# Altium integrated library Analog Devices Data Converters Analog-to-Digital Converters.IntLib: 2400 symbols (part 335 of 338)
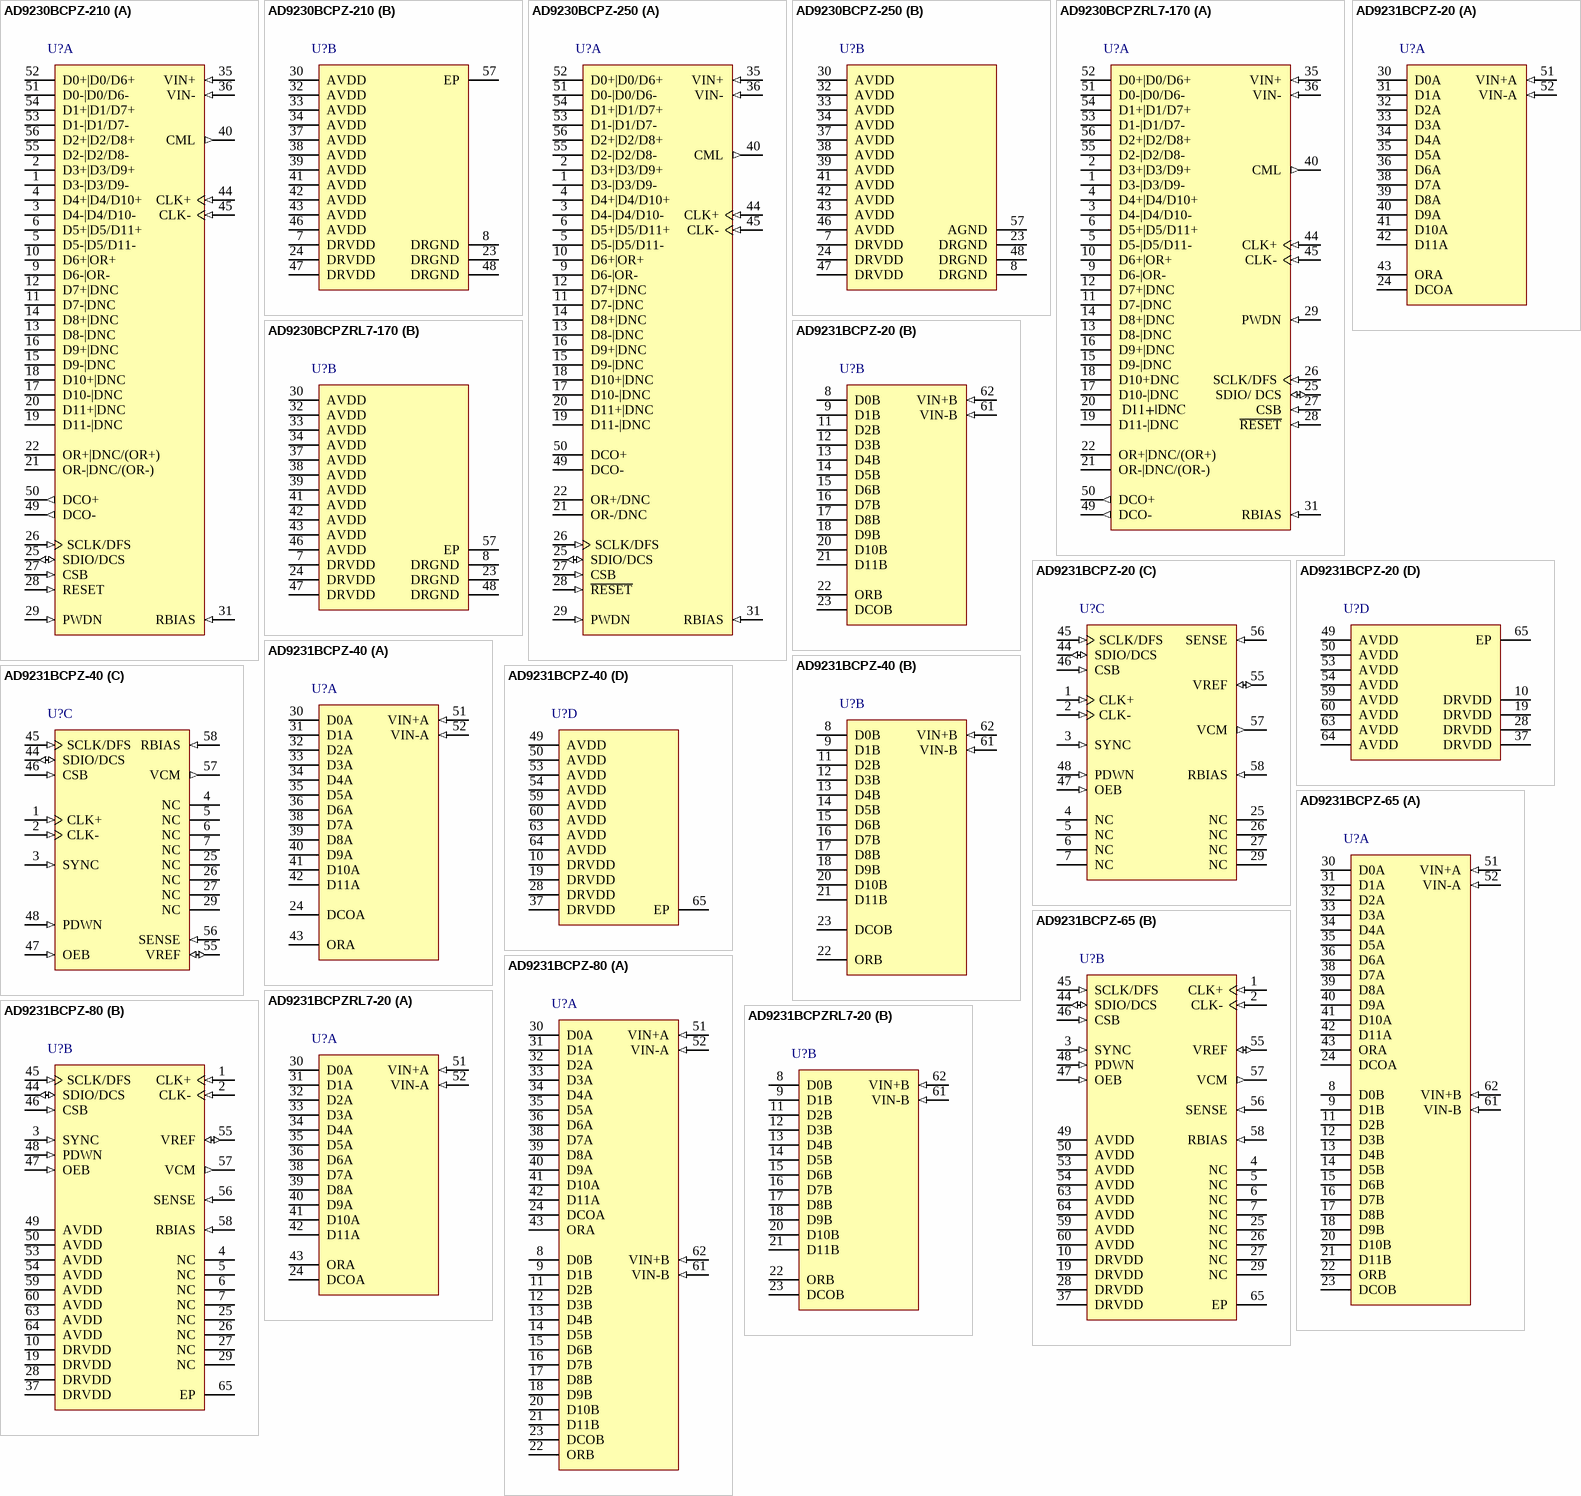
[diagram p337: symbols AD9230BCPZ-210 to AD9231BCPZRL7-20]

## AD9231BCPZ-20
designator U?
Dual 12-Bit Analog-to-Digital Converter with LVDS, Serial Interface, 1.8 V, 20MSPS, -40 to +85 degC, CP-64-4, Pb-Free, Tray; Part Number: AD9231-20; Manufacturer: Analog Devices; Resolution (Bits): 12; Channels: 2; Throughput Rate (SPS): 20M; DatasheetVersion: Rev.A; PackageVersion: 051007-C; PackageReference: CP-64-4; PackageDescription: 64-Lead Lead Frame Chip Scale Package [LFCSP_VQ] 9 x 9 mm Body, Very Thin Quad; Interface: LVDS, Ser; RoHS: Y; Packing: Tray; Mounting Technology: Surface Mount; Code_JEDEC: MO-220-VMMD-4; ComponentLink1Description: Manufacturer URL; ComponentLink1URL: http://www.analog.com/en/index.html; ComponentLink2Description: Datasheet; ComponentLink2URL: http://www.analog.com/static/imported-files/data_sheets/AD9231.pdf; ComponentLink3Description: Package Specification; ComponentLink3URL: http://www.analog.com/static/imported-files/packages/PKG_PDF/LFCSP(CP)/CP_64_4.pdf; ComponentLink4Description: Product URL; ComponentLink4URL: http://www.analog.com/en/analog-to-digital-converters/ad-converters/ad9231/products/product.html
footprint CP-64-4_N (QFN, 64-Leads, Body 9x9mm, Pitch 0.5mm, Thermal Pad 6.2x6.2mm, IPC Medium Density)
footprint CP-64-4_L (QFN, 64-Leads, Body 9x9mm, Pitch 0.5mm, Thermal Pad 6.2x6.2mm, IPC High Density)
footprint CP-64-4_M (QFN, 64-Leads, Body 9x9mm, Pitch 0.5mm, Thermal Pad 6.2x6.2mm, IPC Low Density)
part A pins: 24 DCOA (hiz) "Channel A Data Clock Digital Output.", 30 D0A (hiz) "Channel A Digital Outputs.", 31 D1A (hiz) "Channel A Digital Outputs.", 32 D2A (hiz) "Channel A Digital Outputs.", 33 D3A (hiz) "Channel A Digital Outputs.", 34 D4A (hiz) "Channel A Digital Outputs.", 35 D5A (hiz) "Channel A Digital Outputs.", 36 D6A (hiz) "Channel A Digital Outputs.", 38 D7A (hiz) "Channel A Digital Outputs.", 39 D8A (hiz) "Channel A Digital Outputs.", 40 D9A (hiz) "Channel A Digital Outputs.", 41 D10A (hiz) "Channel A Digital Outputs.", 42 D11A (hiz) "Channel A Digital Outputs. D11A = MSB.", 43 ORA (hiz) "Channel A Out-of-Range Digital Output.", 51 VIN+A (in) "Channel A Analog Inputs.", 52 VIN-A (in) "Channel A Analog Inputs."
part B pins: 8 D0B (hiz) "Channel B Digital Outputs.", 9 D1B (hiz) "Channel B Digital Outputs.", 11 D2B (hiz) "Channel B Digital Outputs.", 12 D3B (hiz) "Channel B Digital Outputs.", 13 D4B (hiz) "Channel B Digital Outputs.", 14 D5B (hiz) "Channel B Digital Outputs.", 15 D6B (hiz) "Channel B Digital Outputs.", 16 D7B (hiz) "Channel B Digital Outputs.", 17 D8B (hiz) "Channel B Digital Outputs.", 18 D9B (hiz) "Channel B Digital Outputs.", 20 D10B (hiz) "Channel B Digital Outputs.", 21 D11B (hiz) "Channel B Digital Outputs. D11B = MSB.", 22 ORB (hiz) "Channel B Out-of-Range Digital Output.", 23 DCOB (hiz) "Channel B Data Clock Digital Output.", 61 VIN-B (in) "Channel B Analog Inputs.", 62 VIN+B (in) "Channel B Analog Inputs."
part C pins: 1 CLK+ (in) "Differential Encode Clock. PECL, LVDS, or 1.8 V CMOS inputs.", 2 CLK- (in) "Differential Encode Clock. PECL, LVDS, or 1.8 V CMOS inputs.", 3 SYNC (in) "Digital Input. SYNC input to clock divider. 30 kO internal pull-down.", 4 NC "Do Not Connect.", 5 NC "Do Not Connect.", 6 NC "Do Not Connect.", 7 NC "Do Not Connect.", 25 NC "Do Not Connect.", 26 NC "Do Not Connect.", 27 NC "Do Not Connect.", 29 NC "Do Not Connect.", 44 SDIO/DCS (io) "SPI Data Input/Output (SDIO). Bidirectional SPI Data I/O in SPI mode. 30 kO internal pull-down in SPI mode.Duty Cycle Stabilizer (DCS). Static enable input for duty cycle stabilizer in non-SPI mode. 30 kO internal pull-up in (See Datasheet)", 45 SCLK/DFS (in) "SPI Clock (SCLK) Input in SPI mode. 30 kO internal pull-down. Data Format Select (DFS). Static control of data output format in non-SPI mode. 30 kO internal pull-down. DFS high = twos complement output. DFS low = offset (See Datasheet)", 46 CSB (in) "SPI Chip Select. Active low enable; 30 kO internal pull-up.", 47 OEB (in) "Digital Input. Enable Channel A and Channel B digital outputs if low, tristate outputs if high. 30 kO internal pull-down.", 48 PDWN (in) "Digital Input. 30 kO internal pull-down. PDWN high = power-down device. PDWN low = run device, normal operation.", 55 VREF (io) "Voltage Reference Input/Output.", 56 SENSE (in) "Reference Mode Selection.", 57 VCM (out) "Analog output voltage at midsupply to set common mode of the analog inputs.", 58 RBIAS (in) "Sets Analog Current Bias. Connect to 10 kO (1% tolerance) resistor to ground."
part D pins: 10 DRVDD (power) "Digital Output Driver Supply (1.8 V to 3.3 V).", 19 DRVDD (power) "Digital Output Driver Supply (1.8 V to 3.3 V).", 28 DRVDD (power) "Digital Output Driver Supply (1.8 V to 3.3 V).", 37 DRVDD (power) "Digital Output Driver Supply (1.8 V to 3.3 V).", 49 AVDD (power) "1.8 V Analog Supply Pins.", 50 AVDD (power) "1.8 V Analog Supply Pins.", 53 AVDD (power) "1.8 V Analog Supply Pins.", 54 AVDD (power) "1.8 V Analog Supply Pins.", 59 AVDD (power) "1.8 V Analog Supply Pins.", 60 AVDD (power) "1.8 V Analog Supply Pins.", 63 AVDD (power) "1.8 V Analog Supply Pins.", 64 AVDD (power) "1.8 V Analog Supply Pins.", 65 EP (power) "Exposed paddle is the only ground connection for the chip. Must be connected to PCB AGND."

## AD9231BCPZ-40
designator U?
Dual 12-Bit Analog-to-Digital Converter with LVDS, Serial Interface, 1.8 V 40MSPS, -40 to +85 degC, CP-64-4, Pb-Free, Tray; Part Number: AD9231-40; Manufacturer: Analog Devices; Resolution (Bits): 12; Channels: 2; Throughput Rate (SPS): 40M; DatasheetVersion: Rev.A; PackageVersion: 051007-C; PackageReference: CP-64-4; PackageDescription: 64-Lead Lead Frame Chip Scale Package [LFCSP_VQ] 9 x 9 mm Body, Very Thin Quad; Interface: LVDS, Ser; RoHS: Y; Packing: Tray; Mounting Technology: Surface Mount; Code_JEDEC: MO-220-VMMD-4; ComponentLink1Description: Manufacturer URL; ComponentLink1URL: http://www.analog.com/en/index.html; ComponentLink2Description: Datasheet; ComponentLink2URL: http://www.analog.com/static/imported-files/data_sheets/AD9231.pdf; ComponentLink3Description: Package Specification; ComponentLink3URL: http://www.analog.com/static/imported-files/packages/PKG_PDF/LFCSP(CP)/CP_64_4.pdf; ComponentLink4Description: Product URL; ComponentLink4URL: http://www.analog.com/en/analog-to-digital-converters/ad-converters/ad9231/products/product.html
footprint CP-64-4_N (QFN, 64-Leads, Body 9x9mm, Pitch 0.5mm, Thermal Pad 6.2x6.2mm, IPC Medium Density)
footprint CP-64-4_L (QFN, 64-Leads, Body 9x9mm, Pitch 0.5mm, Thermal Pad 6.2x6.2mm, IPC High Density)
footprint CP-64-4_M (QFN, 64-Leads, Body 9x9mm, Pitch 0.5mm, Thermal Pad 6.2x6.2mm, IPC Low Density)
part A pins: 24 DCOA (hiz) "Channel A Data Clock Digital Output.", 30 D0A (hiz) "Channel A Digital Outputs.", 31 D1A (hiz) "Channel A Digital Outputs.", 32 D2A (hiz) "Channel A Digital Outputs.", 33 D3A (hiz) "Channel A Digital Outputs.", 34 D4A (hiz) "Channel A Digital Outputs.", 35 D5A (hiz) "Channel A Digital Outputs.", 36 D6A (hiz) "Channel A Digital Outputs.", 38 D7A (hiz) "Channel A Digital Outputs.", 39 D8A (hiz) "Channel A Digital Outputs.", 40 D9A (hiz) "Channel A Digital Outputs.", 41 D10A (hiz) "Channel A Digital Outputs.", 42 D11A (hiz) "Channel A Digital Outputs. D11A = MSB.", 43 ORA (hiz) "Channel A Out-of-Range Digital Output.", 51 VIN+A (in) "Channel A Analog Inputs.", 52 VIN-A (in) "Channel A Analog Inputs."
part B pins: 8 D0B (hiz) "Channel B Digital Outputs.", 9 D1B (hiz) "Channel B Digital Outputs.", 11 D2B (hiz) "Channel B Digital Outputs.", 12 D3B (hiz) "Channel B Digital Outputs.", 13 D4B (hiz) "Channel B Digital Outputs.", 14 D5B (hiz) "Channel B Digital Outputs.", 15 D6B (hiz) "Channel B Digital Outputs.", 16 D7B (hiz) "Channel B Digital Outputs.", 17 D8B (hiz) "Channel B Digital Outputs.", 18 D9B (hiz) "Channel B Digital Outputs.", 20 D10B (hiz) "Channel B Digital Outputs.", 21 D11B (hiz) "Channel B Digital Outputs. D11B = MSB", 22 ORB (hiz) "Channel B Out-of-Range Digital Output.", 23 DCOB (hiz) "Channel B Data Clock Digital Output.", 61 VIN-B (in) "Channel B Analog Inputs.", 62 VIN+B (in) "Channel B Analog Inputs."
part C pins: 1 CLK+ (in) "Differential Encode Clock. PECL, LVDS, or 1.8 V CMOS inputs.", 2 CLK- (in) "Differential Encode Clock. PECL, LVDS, or 1.8 V CMOS inputs.", 3 SYNC (in) "Digital Input. SYNC input to clock divider. 30 k ohm internal pull-down.", 4 NC "Do Not Connect.", 5 NC "Do Not Connect.", 6 NC "Do Not Connect.", 7 NC "Do Not Connect.", 25 NC "Do Not Connect.", 26 NC "Do Not Connect.", 27 NC "Do Not Connect.", 29 NC "Do Not Connect.", 44 SDIO/DCS (io) "SPI Data Input/Output (SDIO). Bidirectional SPI Data I/O in SPI mode. 30 kO internal pull-down in SPI mode. Duty Cycle Stabilizer (DCS). Static enable input for duty cycle stabilizer in non-SPI mode. 30 k ohm internal pull-up (See Datasheet)", 45 SCLK/DFS (in) "SPI Clock (SCLK) Input in SPI mode. 30 k ohm internal pull-down. Data Format Select (DFS). Static control of data output format in non-SPI mode. 30 k ohm internal pull-down. DFS high = twos complement output. DFS low = offset (See Datasheet)", 46 CSB (in) "SPI Chip Select. Active low enable; 30 k ohm internal pull-up.", 47 OEB (in) "Digital Input. Enable Channel A and Channel B digital outputs if low, tristate outputs if high. 30 k ohm internal pull-down.", 48 PDWN (in) "Digital Input. 30 k ohm  internal pull-down. PDWN high = power-down device. PDWN low = run device, normal operation.", 55 VREF (io) "Voltage Reference Input/Output.", 56 SENSE (in) "Reference Mode Selection.", 57 VCM (out) "Analog output voltage at midsupply to set common mode of the analog inputs.", 58 RBIAS (in) "Sets Analog Current Bias. Connect to 10 k ohm  (1% tolerance) resistor to ground."
part D pins: 10 DRVDD (power) "Digital Output Driver Supply (1.8 V to 3.3 V).", 19 DRVDD (power) "Digital Output Driver Supply (1.8 V to 3.3 V).", 28 DRVDD (power) "Digital Output Driver Supply (1.8 V to 3.3 V).", 37 DRVDD (power) "Digital Output Driver Supply (1.8 V to 3.3 V).", 49 AVDD (power) "1.8 V Analog Supply Pins.", 50 AVDD (power) "1.8 V Analog Supply Pins.", 53 AVDD (power) "1.8 V Analog Supply Pins.", 54 AVDD (power) "1.8 V Analog Supply Pins.", 59 AVDD (power) "1.8 V Analog Supply Pins.", 60 AVDD (power) "1.8 V Analog Supply Pins.", 63 AVDD (power) "1.8 V Analog Supply Pins.", 64 AVDD (power) "1.8 V Analog Supply Pins.", 65 EP (power) "Exposed paddle is the only ground connection for the chip. Must be connected to PCB AGND."

## AD9231BCPZ-65
designator U?
Dual 12-Bit Analog-to-Digital Converter with LVDS, Serial Interface, 1.8 V 65MSPS, -40 to +85 degC, CP-64-4, Pb-Free, Tray; Part Number: AD9231-65; Manufacturer: Analog Devices; Resolution (Bits): 12; Channels: 2; Throughput Rate (SPS): 65M; DatasheetVersion: Rev.A; PackageVersion: 051007-C; PackageReference: CP-64-4; PackageDescription: 64-Lead Lead Frame Chip Scale Package [LFCSP_VQ] 9 x 9 mm Body, Very Thin Quad; Interface: LVDS, Ser; RoHS: Y; Packing: Tray; Mounting Technology: Surface Mount; Code_JEDEC: MO-220-VMMD-4; ComponentLink1Description: Manufacturer URL; ComponentLink1URL: http://www.analog.com/en/index.html; ComponentLink2Description: Datasheet; ComponentLink2URL: http://www.analog.com/static/imported-files/data_sheets/AD9231.pdf; ComponentLink3Description: Package Specification; ComponentLink3URL: http://www.analog.com/static/imported-files/packages/PKG_PDF/LFCSP(CP)/CP_64_4.pdf; ComponentLink4Description: Product URL; ComponentLink4URL: http://www.analog.com/en/analog-to-digital-converters/ad-converters/ad9231/products/product.html
footprint CP-64-4_N (QFN, 64-Leads, Body 9x9mm, Pitch 0.5mm, Thermal Pad 6.2x6.2mm, IPC Medium Density)
footprint CP-64-4_L (QFN, 64-Leads, Body 9x9mm, Pitch 0.5mm, Thermal Pad 6.2x6.2mm, IPC High Density)
footprint CP-64-4_M (QFN, 64-Leads, Body 9x9mm, Pitch 0.5mm, Thermal Pad 6.2x6.2mm, IPC Low Density)
part A pins: 8 D0B (hiz) "Channel B Digital Outputs.", 9 D1B (hiz) "Channel B Digital Outputs.", 11 D2B (hiz) "Channel B Digital Outputs.", 12 D3B (hiz) "Channel B Digital Outputs.", 13 D4B (hiz) "Channel B Digital Outputs.", 14 D5B (hiz) "Channel B Digital Outputs.", 15 D6B (hiz) "Channel B Digital Outputs.", 16 D7B (hiz) "Channel B Digital Outputs.", 17 D8B (hiz) "Channel B Digital Outputs.", 18 D9B (hiz) "Channel B Digital Outputs.", 20 D10B (hiz) "Channel B Digital Outputs.", 21 D11B (hiz) "Channel B Digital Outputs. D11B = MSB", 22 ORB (hiz) "Channel B Out-of-Range Digital Output.", 23 DCOB (hiz) "Channel B Data Clock Digital Output.", 24 DCOA (hiz) "Channel A Data Clock Digital Output.", 30 D0A (hiz) "Channel A Digital Outputs.", 31 D1A (hiz) "Channel A Digital Outputs.", 32 D2A (hiz) "Channel A Digital Outputs.", 33 D3A (hiz) "Channel A Digital Outputs.", 34 D4A (hiz) "Channel A Digital Outputs.", 35 D5A (hiz) "Channel A Digital Outputs.", 36 D6A (hiz) "Channel A Digital Outputs.", 38 D7A (hiz) "Channel A Digital Outputs.", 39 D8A (hiz) "Channel A Digital Outputs.", 40 D9A (hiz) "Channel A Digital Outputs.", 41 D10A (hiz) "Channel A Digital Outputs.", 42 D11A (hiz) "Channel A Digital Outputs. D11A = MSB.", 43 ORA (hiz) "Channel A Out-of-Range Digital Output.", 51 VIN+A (in) "Channel A Analog Inputs.", 52 VIN-A (in) "Channel A Analog Inputs.", 61 VIN-B (in) "Channel B Analog Inputs.", 62 VIN+B (in) "Channel B Analog Inputs."
part B pins: 1 CLK+ (in) "Differential Encode Clock. PECL, LVDS, or 1.8 V CMOS inputs.", 2 CLK- (in) "Differential Encode Clock. PECL, LVDS, or 1.8 V CMOS inputs.", 3 SYNC (in) "Digital Input. SYNC input to clock divider. 30 k ohm internal pull-down.", 4 NC "Do Not Connect.", 5 NC "Do Not Connect.", 6 NC "Do Not Connect.", 7 NC "Do Not Connect.", 10 DRVDD (power) "Digital Output Driver Supply (1.8 V to 3.3 V).", 19 DRVDD (power) "Digital Output Driver Supply (1.8 V to 3.3 V).", 25 NC "Do Not Connect.", 26 NC "Do Not Connect.", 27 NC "Do Not Connect.", 28 DRVDD (power) "Digital Output Driver Supply (1.8 V to 3.3 V).", 29 NC "Do Not Connect.", 37 DRVDD (power) "Digital Output Driver Supply (1.8 V to 3.3 V).", 44 SDIO/DCS (io) "SPI Data Input/Output (SDIO). Bidirectional SPI Data I/O in SPI mode. 30 kO internal pull-down in SPI mode. Duty Cycle Stabilizer (DCS). Static enable input for duty cycle stabilizer in non-SPI mode. 30 kO internal pull-up (See Datasheet)", 45 SCLK/DFS (in) "SPI Clock (SCLK) Input in SPI mode. 30 kO internal pull-down. Data Format Select (DFS). Static control of data output format in non-SPI mode. 30 k ohm internal pull-down. DFS high = twos complement output. DFS low = offset (See Datasheet)", 46 CSB (in) "SPI Chip Select. Active low enable; 30 k ohm internal pull-up.", 47 OEB (in) "Digital Input. Enable Channel A and Channel B digital outputs if low, tristate outputs if high. 30 k ohm internal pull-down.", 48 PDWN (in) "Digital Input. 30 k ohm  internal pull-down. PDWN high = power-down device. PDWN low = run device, normal operation.", 49 AVDD (power) "1.8 V Analog Supply Pins.", 50 AVDD (power) "1.8 V Analog Supply Pins.", 53 AVDD (power) "1.8 V Analog Supply Pins.", 54 AVDD (power) "1.8 V Analog Supply Pins.", 55 VREF (io) "Voltage Reference Input/Output.", 56 SENSE (in) "Reference Mode Selection.", 57 VCM (out) "Analog output voltage at midsupply to set common mode of the analog inputs.", 58 RBIAS (in) "Sets Analog Current Bias. Connect to 10 k ohm  (1% tolerance) resistor to ground.", 59 AVDD (power) "1.8 V Analog Supply Pins.", 60 AVDD (power) "1.8 V Analog Supply Pins.", 63 AVDD (power) "1.8 V Analog Supply Pins.", 64 AVDD (power) "1.8 V Analog Supply Pins.", 65 EP (power) "Exposed paddle is the only ground connection for the chip. Must be connected to PCB AGND."

## AD9231BCPZ-80
designator U?
Dual 12-Bit Analog-to-Digital Converter with LVDS, Serial Interface, 1.8V, 80MSPS, -40 to +85 degC, CP-64-4, Pb-Free, Tray; Part Number: AD9231-80; Manufacturer: Analog Devices; Resolution (Bits): 12; Channels: 2; Throughput Rate (SPS): 80M; DatasheetVersion: Rev.A; PackageVersion: 051007-C; PackageReference: CP-64-4; PackageDescription: 64-Lead Lead Frame Chip Scale Package [LFCSP_VQ] 9 x 9 mm Body, Very Thin Quad; Interface: LVDS, Ser; RoHS: Y; Packing: Tray; Mounting Technology: Surface Mount; Code_JEDEC: MO-220-VMMD-4; ComponentLink1Description: Manufacturer URL; ComponentLink1URL: http://www.analog.com/en/index.html; ComponentLink2Description: Datasheet; ComponentLink2URL: http://www.analog.com/static/imported-files/data_sheets/AD9231.pdf; ComponentLink3Description: Package Specification; ComponentLink3URL: http://www.analog.com/static/imported-files/packages/PKG_PDF/LFCSP(CP)/CP_64_4.pdf; ComponentLink4Description: Product URL; ComponentLink4URL: http://www.analog.com/en/analog-to-digital-converters/ad-converters/ad9231/products/product.html
footprint CP-64-4_N (QFN, 64-Leads, Body 9x9mm, Pitch 0.5mm, Thermal Pad 6.2x6.2mm, IPC Medium Density)
footprint CP-64-4_L (QFN, 64-Leads, Body 9x9mm, Pitch 0.5mm, Thermal Pad 6.2x6.2mm, IPC High Density)
footprint CP-64-4_M (QFN, 64-Leads, Body 9x9mm, Pitch 0.5mm, Thermal Pad 6.2x6.2mm, IPC Low Density)
part A pins: 8 D0B (hiz) "Channel B Digital Outputs.", 9 D1B (hiz) "Channel B Digital Outputs.", 11 D2B (hiz) "Channel B Digital Outputs.", 12 D3B (hiz) "Channel B Digital Outputs.", 13 D4B (hiz) "Channel B Digital Outputs.", 14 D5B (hiz) "Channel B Digital Outputs.", 15 D6B (hiz) "Channel B Digital Outputs.", 16 D7B (hiz) "Channel B Digital Outputs.", 17 D8B (hiz) "Channel B Digital Outputs.", 18 D9B (hiz) "Channel B Digital Outputs.", 20 D10B (hiz) "Channel B Digital Outputs.", 21 D11B (hiz) "Channel B Digital Outputs. D11B = MSB", 22 ORB (hiz) "Channel B Out-of-Range Digital Output.", 23 DCOB (hiz) "Channel B Data Clock Digital Output.", 24 DCOA (hiz) "Channel A Data Clock Digital Output.", 30 D0A (hiz) "Channel A Digital Outputs.", 31 D1A (hiz) "Channel A Digital Outputs.", 32 D2A (hiz) "Channel A Digital Outputs.", 33 D3A (hiz) "Channel A Digital Outputs.", 34 D4A (hiz) "Channel A Digital Outputs.", 35 D5A (hiz) "Channel A Digital Outputs.", 36 D6A (hiz) "Channel A Digital Outputs.", 38 D7A (hiz) "Channel A Digital Outputs.", 39 D8A (hiz) "Channel A Digital Outputs.", 40 D9A (hiz) "Channel A Digital Outputs.", 41 D10A (hiz) "Channel A Digital Outputs.", 42 D11A (hiz) "Channel A Digital Outputs. D11A = MSB.", 43 ORA (hiz) "Channel A Out-of-Range Digital Output.", 51 VIN+A (in) "Channel A Analog Inputs.", 52 VIN-A (in) "Channel A Analog Inputs.", 61 VIN-B (in) "Channel B Analog Inputs.", 62 VIN+B (in) "Channel B Analog Inputs."
part B pins: 1 CLK+ (in) "Differential Encode Clock. PECL, LVDS, or 1.8 V CMOS inputs.", 2 CLK- (in) "Differential Encode Clock. PECL, LVDS, or 1.8 V CMOS inputs.", 3 SYNC (in) "Digital Input. SYNC input to clock divider. 30 k ohm internal pull-down.", 4 NC "Do Not Connect.", 5 NC "Do Not Connect.", 6 NC "Do Not Connect.", 7 NC "Do Not Connect.", 10 DRVDD (power) "Digital Output Driver Supply (1.8 V to 3.3 V).", 19 DRVDD (power) "Digital Output Driver Supply (1.8 V to 3.3 V).", 25 NC "Do Not Connect.", 26 NC "Do Not Connect.", 27 NC "Do Not Connect.", 28 DRVDD (power) "Digital Output Driver Supply (1.8 V to 3.3 V).", 29 NC "Do Not Connect.", 37 DRVDD (power) "Digital Output Driver Supply (1.8 V to 3.3 V).", 44 SDIO/DCS (io) "SPI Data Input/Output (SDIO). Bidirectional SPI Data I/O in SPI mode. 30 k ohm  internal pull-down in SPI mode. Duty Cycle Stabilizer (DCS). Static enable input for duty cycle stabilizer in non-SPI mode. 30 k ohm internal pull-up (See Datasheet)", 45 SCLK/DFS (in) "SPI Clock (SCLK) Input in SPI mode. 30 k ohm internal pull-down. Data Format Select (DFS). Static control of data output format in non-SPI mode. 30 kohm  internal pull-down. DFS high = twos complement output. DFS low = offset (See Datasheet)", 46 CSB (in) "SPI Chip Select. Active low enable; 30 kohm internal pull-up.", 47 OEB (in) "Digital Input. Enable Channel A and Channel B digital outputs if low, tristate outputs if high. 30 k ohm internal pull-down.", 48 PDWN (in) "Digital Input. 30 k ohm internal pull-down. PDWN high = power-down device. PDWN low = run device, normal operation.", 49 AVDD (power) "1.8 V Analog Supply Pins.", 50 AVDD (power) "1.8 V Analog Supply Pins.", 53 AVDD (power) "1.8 V Analog Supply Pins.", 54 AVDD (power) "1.8 V Analog Supply Pins.", 55 VREF (io) "Voltage Reference Input/Output.", 56 SENSE (in) "Reference Mode Selection.", 57 VCM (out) "Analog output voltage at midsupply to set common mode of the analog inputs.", 58 RBIAS (in) "Sets Analog Current Bias. Connect to 10 k ohm (1% tolerance) resistor to ground.", 59 AVDD (power) "1.8 V Analog Supply Pins.", 60 AVDD (power) "1.8 V Analog Supply Pins.", 63 AVDD (power) "1.8 V Analog Supply Pins.", 64 AVDD (power) "1.8 V Analog Supply Pins.", 65 EP (power) "Exposed paddle is the only ground connection for the chip. Must be connected to PCB AGND."

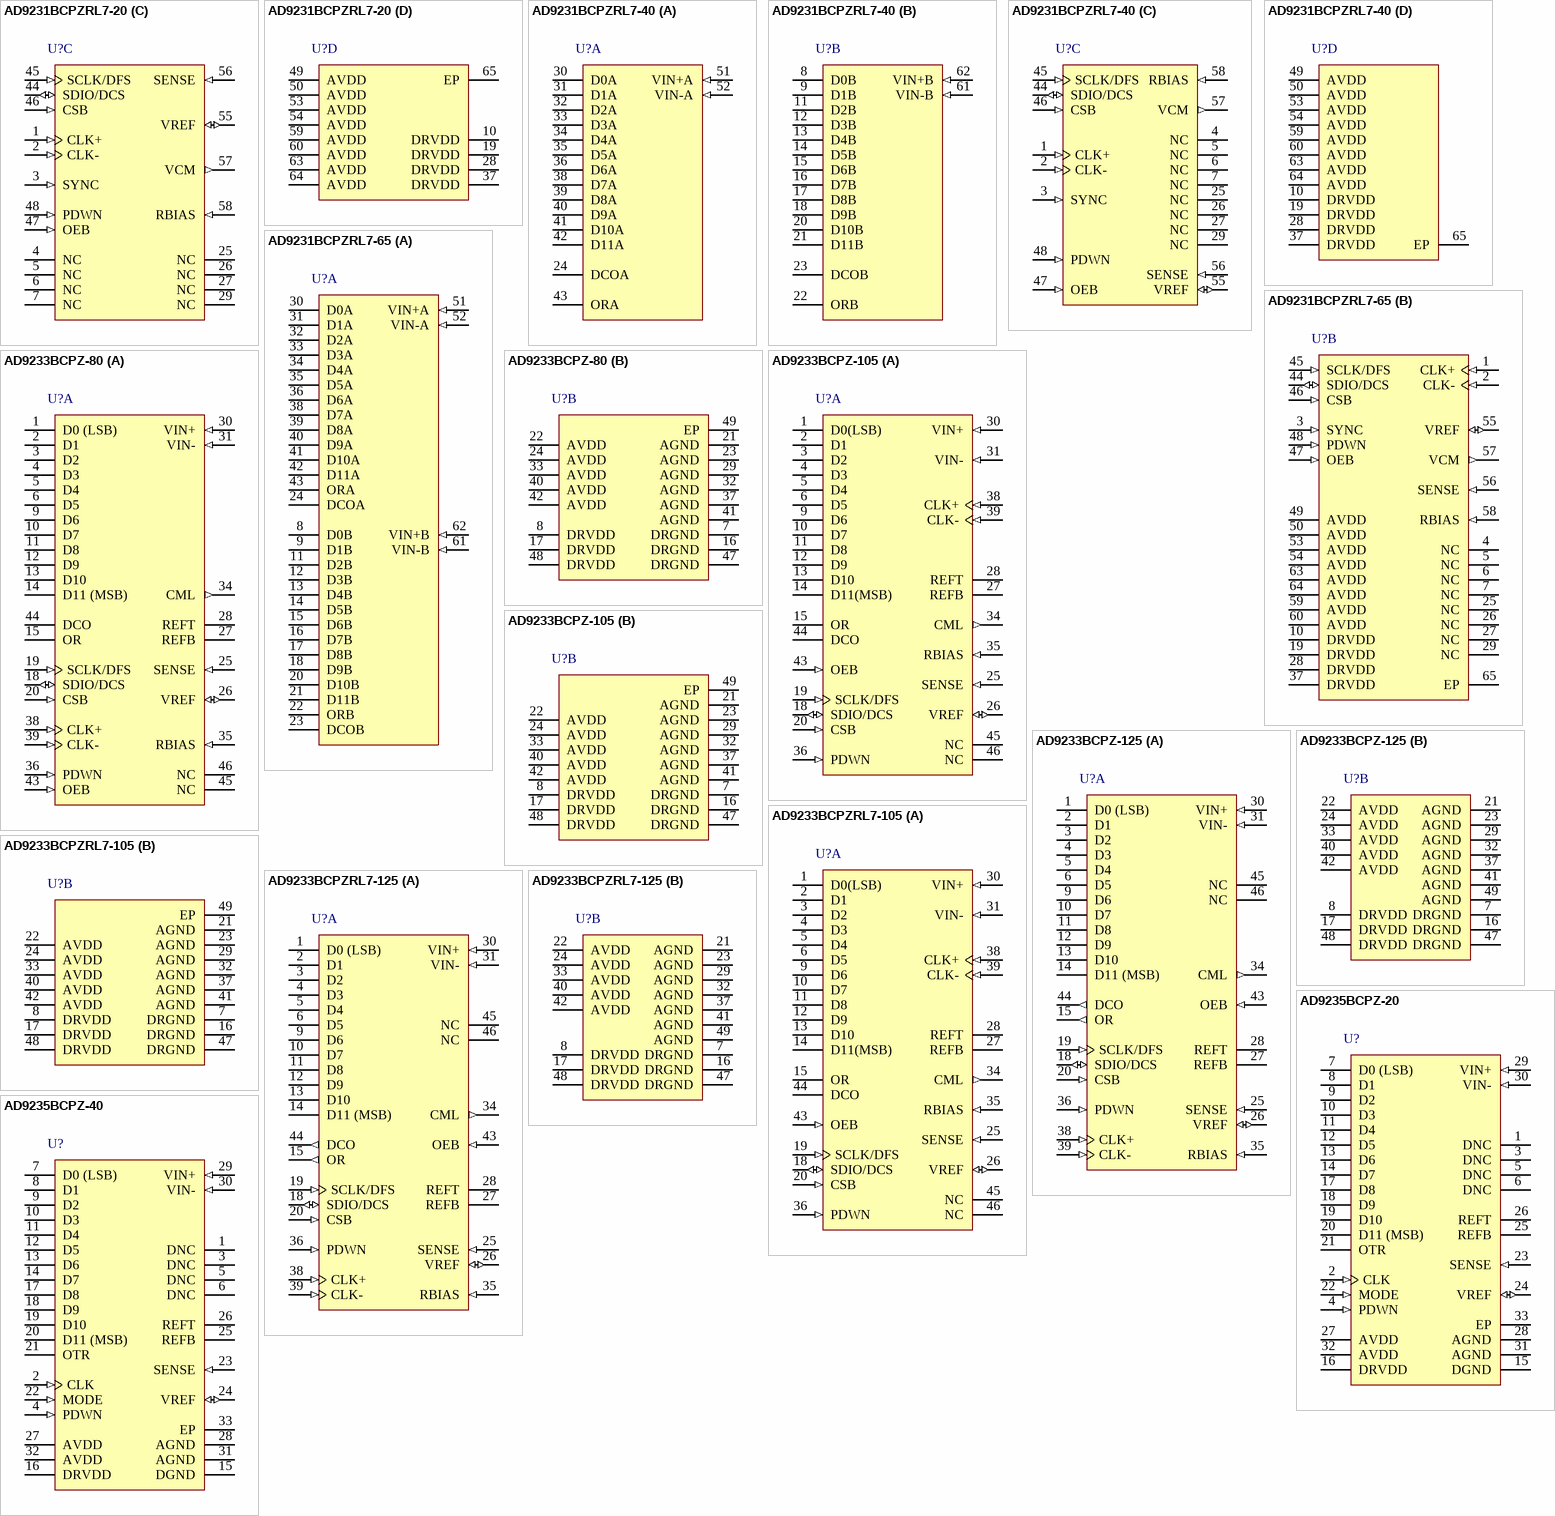
[diagram p108: symbols AD9231BCPZRL7-20 to AD9235BCPZ-40]

## AD9231BCPZRL7-20
designator U?
Dual 12-Bit Analog-to-Digital Converter with LVDS, Serial Interface, 1.8 V, 20MSPS, -40 to +85 degC, CP-64-4, Pb-Free, Reel; Part Number: AD9231-20; Manufacturer: Analog Devices; Resolution (Bits): 12; Channels: 2; Throughput Rate (SPS): 20M; DatasheetVersion: Rev.A; PackageVersion: 051007-C; PackageReference: CP-64-4; PackageDescription: 64-Lead Lead Frame Chip Scale Package [LFCSP_VQ] 9 x 9 mm Body, Very Thin Quad; Interface: LVDS, Ser; RoHS: Y; Packing: Reel; Mounting Technology: Surface Mount; Code_JEDEC: MO-220-VMMD-4; ComponentLink1Description: Manufacturer URL; ComponentLink1URL: http://www.analog.com/en/index.html; ComponentLink2Description: Datasheet; ComponentLink2URL: http://www.analog.com/static/imported-files/data_sheets/AD9231.pdf; ComponentLink3Description: Package Specification; ComponentLink3URL: http://www.analog.com/static/imported-files/packages/PKG_PDF/LFCSP(CP)/CP_64_4.pdf; ComponentLink4Description: Product URL; ComponentLink4URL: http://www.analog.com/en/analog-to-digital-converters/ad-converters/ad9231/products/product.html
footprint CP-64-4_N (QFN, 64-Leads, Body 9x9mm, Pitch 0.5mm, Thermal Pad 6.2x6.2mm, IPC Medium Density)
footprint CP-64-4_L (QFN, 64-Leads, Body 9x9mm, Pitch 0.5mm, Thermal Pad 6.2x6.2mm, IPC High Density)
footprint CP-64-4_M (QFN, 64-Leads, Body 9x9mm, Pitch 0.5mm, Thermal Pad 6.2x6.2mm, IPC Low Density)
part A pins: 24 DCOA (hiz) "Channel A Data Clock Digital Output.", 30 D0A (hiz) "Channel A Digital Outputs.", 31 D1A (hiz) "Channel A Digital Outputs.", 32 D2A (hiz) "Channel A Digital Outputs.", 33 D3A (hiz) "Channel A Digital Outputs.", 34 D4A (hiz) "Channel A Digital Outputs.", 35 D5A (hiz) "Channel A Digital Outputs.", 36 D6A (hiz) "Channel A Digital Outputs.", 38 D7A (hiz) "Channel A Digital Outputs.", 39 D8A (hiz) "Channel A Digital Outputs.", 40 D9A (hiz) "Channel A Digital Outputs.", 41 D10A (hiz) "Channel A Digital Outputs.", 42 D11A (hiz) "Channel A Digital Outputs. D11A = MSB.", 43 ORA (hiz) "Channel A Out-of-Range Digital Output.", 51 VIN+A (in) "Channel A Analog Inputs.", 52 VIN-A (in) "Channel A Analog Inputs."
part B pins: 8 D0B (hiz) "Channel B Digital Outputs.", 9 D1B (hiz) "Channel B Digital Outputs.", 11 D2B (hiz) "Channel B Digital Outputs.", 12 D3B (hiz) "Channel B Digital Outputs.", 13 D4B (hiz) "Channel B Digital Outputs.", 14 D5B (hiz) "Channel B Digital Outputs.", 15 D6B (hiz) "Channel B Digital Outputs.", 16 D7B (hiz) "Channel B Digital Outputs.", 17 D8B (hiz) "Channel B Digital Outputs.", 18 D9B (hiz) "Channel B Digital Outputs.", 20 D10B (hiz) "Channel B Digital Outputs.", 21 D11B (hiz) "Channel B Digital Outputs. D11B = MSB.", 22 ORB (hiz) "Channel B Out-of-Range Digital Output.", 23 DCOB (hiz) "Channel B Data Clock Digital Output.", 61 VIN-B (in) "Channel B Analog Inputs.", 62 VIN+B (in) "Channel B Analog Inputs."
part C pins: 1 CLK+ (in) "Differential Encode Clock. PECL, LVDS, or 1.8 V CMOS inputs.", 2 CLK- (in) "Differential Encode Clock. PECL, LVDS, or 1.8 V CMOS inputs.", 3 SYNC (in) "Digital Input. SYNC input to clock divider. 30 kO internal pull-down.", 4 NC "Do Not Connect.", 5 NC "Do Not Connect.", 6 NC "Do Not Connect.", 7 NC "Do Not Connect.", 25 NC "Do Not Connect.", 26 NC "Do Not Connect.", 27 NC "Do Not Connect.", 29 NC "Do Not Connect.", 44 SDIO/DCS (io) "SPI Data Input/Output (SDIO). Bidirectional SPI Data I/O in SPI mode. 30 kO internal pull-down in SPI mode.Duty Cycle Stabilizer (DCS). Static enable input for duty cycle stabilizer in non-SPI mode. 30 kO internal pull-up in (See Datasheet)", 45 SCLK/DFS (in) "SPI Clock (SCLK) Input in SPI mode. 30 kO internal pull-down. Data Format Select (DFS). Static control of data output format in non-SPI mode. 30 kO internal pull-down. DFS high = twos complement output. DFS low = offset (See Datasheet)", 46 CSB (in) "SPI Chip Select. Active low enable; 30 kO internal pull-up.", 47 OEB (in) "Digital Input. Enable Channel A and Channel B digital outputs if low, tristate outputs if high. 30 kO internal pull-down.", 48 PDWN (in) "Digital Input. 30 kO internal pull-down. PDWN high = power-down device. PDWN low = run device, normal operation.", 55 VREF (io) "Voltage Reference Input/Output.", 56 SENSE (in) "Reference Mode Selection.", 57 VCM (out) "Analog output voltage at midsupply to set common mode of the analog inputs.", 58 RBIAS (in) "Sets Analog Current Bias. Connect to 10 kO (1% tolerance) resistor to ground."
part D pins: 10 DRVDD (power) "Digital Output Driver Supply (1.8 V to 3.3 V).", 19 DRVDD (power) "Digital Output Driver Supply (1.8 V to 3.3 V).", 28 DRVDD (power) "Digital Output Driver Supply (1.8 V to 3.3 V).", 37 DRVDD (power) "Digital Output Driver Supply (1.8 V to 3.3 V).", 49 AVDD (power) "1.8 V Analog Supply Pins.", 50 AVDD (power) "1.8 V Analog Supply Pins.", 53 AVDD (power) "1.8 V Analog Supply Pins.", 54 AVDD (power) "1.8 V Analog Supply Pins.", 59 AVDD (power) "1.8 V Analog Supply Pins.", 60 AVDD (power) "1.8 V Analog Supply Pins.", 63 AVDD (power) "1.8 V Analog Supply Pins.", 64 AVDD (power) "1.8 V Analog Supply Pins.", 65 EP (power) "Exposed paddle is the only ground connection for the chip. Must be connected to PCB AGND."

## AD9231BCPZRL7-40
designator U?
Dual 12-Bit Analog-to-Digital Converter with LVDS, Serial Interface, 1.8 V 40MSPS, -40 to +85 degC, CP-64-4, Pb-Free, Reel; Part Number: AD9231-40; Manufacturer: Analog Devices; Resolution (Bits): 12; Channels: 2; Throughput Rate (SPS): 40M; DatasheetVersion: Rev.A; PackageVersion: 051007-C; PackageReference: CP-64-4; PackageDescription: 64-Lead Lead Frame Chip Scale Package [LFCSP_VQ] 9 x 9 mm Body, Very Thin Quad; Interface: LVDS, Ser; RoHS: Y; Packing: Reel; Mounting Technology: Surface Mount; Code_JEDEC: MO-220-VMMD-4; ComponentLink1Description: Manufacturer URL; ComponentLink1URL: http://www.analog.com/en/index.html; ComponentLink2Description: Datasheet; ComponentLink2URL: http://www.analog.com/static/imported-files/data_sheets/AD9231.pdf; ComponentLink3Description: Package Specification; ComponentLink3URL: http://www.analog.com/static/imported-files/packages/PKG_PDF/LFCSP(CP)/CP_64_4.pdf; ComponentLink4Description: Product URL; ComponentLink4URL: http://www.analog.com/en/analog-to-digital-converters/ad-converters/ad9231/products/product.html
footprint CP-64-4_N (QFN, 64-Leads, Body 9x9mm, Pitch 0.5mm, Thermal Pad 6.2x6.2mm, IPC Medium Density)
footprint CP-64-4_L (QFN, 64-Leads, Body 9x9mm, Pitch 0.5mm, Thermal Pad 6.2x6.2mm, IPC High Density)
footprint CP-64-4_M (QFN, 64-Leads, Body 9x9mm, Pitch 0.5mm, Thermal Pad 6.2x6.2mm, IPC Low Density)
part A pins: 24 DCOA (hiz) "Channel A Data Clock Digital Output.", 30 D0A (hiz) "Channel A Digital Outputs.", 31 D1A (hiz) "Channel A Digital Outputs.", 32 D2A (hiz) "Channel A Digital Outputs.", 33 D3A (hiz) "Channel A Digital Outputs.", 34 D4A (hiz) "Channel A Digital Outputs.", 35 D5A (hiz) "Channel A Digital Outputs.", 36 D6A (hiz) "Channel A Digital Outputs.", 38 D7A (hiz) "Channel A Digital Outputs.", 39 D8A (hiz) "Channel A Digital Outputs.", 40 D9A (hiz) "Channel A Digital Outputs.", 41 D10A (hiz) "Channel A Digital Outputs.", 42 D11A (hiz) "Channel A Digital Outputs. D11A = MSB.", 43 ORA (hiz) "Channel A Out-of-Range Digital Output.", 51 VIN+A (in) "Channel A Analog Inputs.", 52 VIN-A (in) "Channel A Analog Inputs."
part B pins: 8 D0B (hiz) "Channel B Digital Outputs.", 9 D1B (hiz) "Channel B Digital Outputs.", 11 D2B (hiz) "Channel B Digital Outputs.", 12 D3B (hiz) "Channel B Digital Outputs.", 13 D4B (hiz) "Channel B Digital Outputs.", 14 D5B (hiz) "Channel B Digital Outputs.", 15 D6B (hiz) "Channel B Digital Outputs.", 16 D7B (hiz) "Channel B Digital Outputs.", 17 D8B (hiz) "Channel B Digital Outputs.", 18 D9B (hiz) "Channel B Digital Outputs.", 20 D10B (hiz) "Channel B Digital Outputs.", 21 D11B (hiz) "Channel B Digital Outputs. D11B = MSB", 22 ORB (hiz) "Channel B Out-of-Range Digital Output.", 23 DCOB (hiz) "Channel B Data Clock Digital Output.", 61 VIN-B (in) "Channel B Analog Inputs.", 62 VIN+B (in) "Channel B Analog Inputs."
part C pins: 1 CLK+ (in) "Differential Encode Clock. PECL, LVDS, or 1.8 V CMOS inputs.", 2 CLK- (in) "Differential Encode Clock. PECL, LVDS, or 1.8 V CMOS inputs.", 3 SYNC (in) "Digital Input. SYNC input to clock divider. 30 k ohm internal pull-down.", 4 NC "Do Not Connect.", 5 NC "Do Not Connect.", 6 NC "Do Not Connect.", 7 NC "Do Not Connect.", 25 NC "Do Not Connect.", 26 NC "Do Not Connect.", 27 NC "Do Not Connect.", 29 NC "Do Not Connect.", 44 SDIO/DCS (io) "SPI Data Input/Output (SDIO). Bidirectional SPI Data I/O in SPI mode. 30 kO internal pull-down in SPI mode. Duty Cycle Stabilizer (DCS). Static enable input for duty cycle stabilizer in non-SPI mode. 30 k ohm internal pull-up (See Datasheet)", 45 SCLK/DFS (in) "SPI Clock (SCLK) Input in SPI mode. 30 k ohm internal pull-down. Data Format Select (DFS). Static control of data output format in non-SPI mode. 30 k ohm internal pull-down. DFS high = twos complement output. DFS low = offset (See Datasheet)", 46 CSB (in) "SPI Chip Select. Active low enable; 30 k ohm internal pull-up.", 47 OEB (in) "Digital Input. Enable Channel A and Channel B digital outputs if low, tristate outputs if high. 30 k ohm internal pull-down.", 48 PDWN (in) "Digital Input. 30 k ohm  internal pull-down. PDWN high = power-down device. PDWN low = run device, normal operation.", 55 VREF (io) "Voltage Reference Input/Output.", 56 SENSE (in) "Reference Mode Selection.", 57 VCM (out) "Analog output voltage at midsupply to set common mode of the analog inputs.", 58 RBIAS (in) "Sets Analog Current Bias. Connect to 10 k ohm  (1% tolerance) resistor to ground."
part D pins: 10 DRVDD (power) "Digital Output Driver Supply (1.8 V to 3.3 V).", 19 DRVDD (power) "Digital Output Driver Supply (1.8 V to 3.3 V).", 28 DRVDD (power) "Digital Output Driver Supply (1.8 V to 3.3 V).", 37 DRVDD (power) "Digital Output Driver Supply (1.8 V to 3.3 V).", 49 AVDD (power) "1.8 V Analog Supply Pins.", 50 AVDD (power) "1.8 V Analog Supply Pins.", 53 AVDD (power) "1.8 V Analog Supply Pins.", 54 AVDD (power) "1.8 V Analog Supply Pins.", 59 AVDD (power) "1.8 V Analog Supply Pins.", 60 AVDD (power) "1.8 V Analog Supply Pins.", 63 AVDD (power) "1.8 V Analog Supply Pins.", 64 AVDD (power) "1.8 V Analog Supply Pins.", 65 EP (power) "Exposed paddle is the only ground connection for the chip. Must be connected to PCB AGND."

## AD9231BCPZRL7-65
designator U?
Dual 12-Bit Analog-to-Digital Converter with LVDS, Serial Interface, 1.8 V 65MSPS, -40 to +85 degC, CP-64-4, Pb-Free, Reel; Part Number: AD9231-65; Manufacturer: Analog Devices; Resolution (Bits): 12; Channels: 2; Throughput Rate (SPS): 65M; DatasheetVersion: Rev.A; PackageVersion: 051007-C; PackageReference: CP-64-4; PackageDescription: 64-Lead Lead Frame Chip Scale Package [LFCSP_VQ] 9 x 9 mm Body, Very Thin Quad; Interface: LVDS, Ser; RoHS: Y; Packing: Reel; Mounting Technology: Surface Mount; Code_JEDEC: MO-220-VMMD-4; ComponentLink1Description: Manufacturer URL; ComponentLink1URL: http://www.analog.com/en/index.html; ComponentLink2Description: Datasheet; ComponentLink2URL: http://www.analog.com/static/imported-files/data_sheets/AD9231.pdf; ComponentLink3Description: Package Specification; ComponentLink3URL: http://www.analog.com/static/imported-files/packages/PKG_PDF/LFCSP(CP)/CP_64_4.pdf; ComponentLink4Description: Product URL; ComponentLink4URL: http://www.analog.com/en/analog-to-digital-converters/ad-converters/ad9231/products/product.html
footprint CP-64-4_N (QFN, 64-Leads, Body 9x9mm, Pitch 0.5mm, Thermal Pad 6.2x6.2mm, IPC Medium Density)
footprint CP-64-4_L (QFN, 64-Leads, Body 9x9mm, Pitch 0.5mm, Thermal Pad 6.2x6.2mm, IPC High Density)
footprint CP-64-4_M (QFN, 64-Leads, Body 9x9mm, Pitch 0.5mm, Thermal Pad 6.2x6.2mm, IPC Low Density)
part A pins: 8 D0B (hiz) "Channel B Digital Outputs.", 9 D1B (hiz) "Channel B Digital Outputs.", 11 D2B (hiz) "Channel B Digital Outputs.", 12 D3B (hiz) "Channel B Digital Outputs.", 13 D4B (hiz) "Channel B Digital Outputs.", 14 D5B (hiz) "Channel B Digital Outputs.", 15 D6B (hiz) "Channel B Digital Outputs.", 16 D7B (hiz) "Channel B Digital Outputs.", 17 D8B (hiz) "Channel B Digital Outputs.", 18 D9B (hiz) "Channel B Digital Outputs.", 20 D10B (hiz) "Channel B Digital Outputs.", 21 D11B (hiz) "Channel B Digital Outputs. D11B = MSB", 22 ORB (hiz) "Channel B Out-of-Range Digital Output.", 23 DCOB (hiz) "Channel B Data Clock Digital Output.", 24 DCOA (hiz) "Channel A Data Clock Digital Output.", 30 D0A (hiz) "Channel A Digital Outputs.", 31 D1A (hiz) "Channel A Digital Outputs.", 32 D2A (hiz) "Channel A Digital Outputs.", 33 D3A (hiz) "Channel A Digital Outputs.", 34 D4A (hiz) "Channel A Digital Outputs.", 35 D5A (hiz) "Channel A Digital Outputs.", 36 D6A (hiz) "Channel A Digital Outputs.", 38 D7A (hiz) "Channel A Digital Outputs.", 39 D8A (hiz) "Channel A Digital Outputs.", 40 D9A (hiz) "Channel A Digital Outputs.", 41 D10A (hiz) "Channel A Digital Outputs.", 42 D11A (hiz) "Channel A Digital Outputs. D11A = MSB.", 43 ORA (hiz) "Channel A Out-of-Range Digital Output.", 51 VIN+A (in) "Channel A Analog Inputs.", 52 VIN-A (in) "Channel A Analog Inputs.", 61 VIN-B (in) "Channel B Analog Inputs.", 62 VIN+B (in) "Channel B Analog Inputs."
part B pins: 1 CLK+ (in) "Differential Encode Clock. PECL, LVDS, or 1.8 V CMOS inputs.", 2 CLK- (in) "Differential Encode Clock. PECL, LVDS, or 1.8 V CMOS inputs.", 3 SYNC (in) "Digital Input. SYNC input to clock divider. 30 k ohm internal pull-down.", 4 NC "Do Not Connect.", 5 NC "Do Not Connect.", 6 NC "Do Not Connect.", 7 NC "Do Not Connect.", 10 DRVDD (power) "Digital Output Driver Supply (1.8 V to 3.3 V).", 19 DRVDD (power) "Digital Output Driver Supply (1.8 V to 3.3 V).", 25 NC "Do Not Connect.", 26 NC "Do Not Connect.", 27 NC "Do Not Connect.", 28 DRVDD (power) "Digital Output Driver Supply (1.8 V to 3.3 V).", 29 NC "Do Not Connect.", 37 DRVDD (power) "Digital Output Driver Supply (1.8 V to 3.3 V).", 44 SDIO/DCS (io) "SPI Data Input/Output (SDIO). Bidirectional SPI Data I/O in SPI mode. 30 kO internal pull-down in SPI mode. Duty Cycle Stabilizer (DCS). Static enable input for duty cycle stabilizer in non-SPI mode. 30 kO internal pull-up (See Datasheet)", 45 SCLK/DFS (in) "SPI Clock (SCLK) Input in SPI mode. 30 kO internal pull-down. Data Format Select (DFS). Static control of data output format in non-SPI mode. 30 k ohm internal pull-down. DFS high = twos complement output. DFS low = offset (See Datasheet)", 46 CSB (in) "SPI Chip Select. Active low enable; 30 k ohm internal pull-up.", 47 OEB (in) "Digital Input. Enable Channel A and Channel B digital outputs if low, tristate outputs if high. 30 k ohm internal pull-down.", 48 PDWN (in) "Digital Input. 30 k ohm  internal pull-down. PDWN high = power-down device. PDWN low = run device, normal operation.", 49 AVDD (power) "1.8 V Analog Supply Pins.", 50 AVDD (power) "1.8 V Analog Supply Pins.", 53 AVDD (power) "1.8 V Analog Supply Pins.", 54 AVDD (power) "1.8 V Analog Supply Pins.", 55 VREF (io) "Voltage Reference Input/Output.", 56 SENSE (in) "Reference Mode Selection.", 57 VCM (out) "Analog output voltage at midsupply to set common mode of the analog inputs.", 58 RBIAS (in) "Sets Analog Current Bias. Connect to 10 k ohm  (1% tolerance) resistor to ground.", 59 AVDD (power) "1.8 V Analog Supply Pins.", 60 AVDD (power) "1.8 V Analog Supply Pins.", 63 AVDD (power) "1.8 V Analog Supply Pins.", 64 AVDD (power) "1.8 V Analog Supply Pins.", 65 EP (power) "Exposed paddle is the only ground connection for the chip. Must be connected to PCB AGND."

## AD9233BCPZ-80
designator U?
Single 12-Bit Analog-to-Digital Converter with Parallel Interface, 1.8 V 80MSPS, -40 to +85 degC, CP-48-3, Pb-Free, Tray; Part Number: AD9233-80; Manufacturer: Analog Devices; Resolution (Bits): 12; Channels: 1; Throughput Rate (SPS): 80M; Interface: Par; DatasheetVersion: Rev.A; PackageVersion: 2005; PackageReference: CP-48-3; PackageDescription: 48-Lead Lead Frame Chip Scale Package [LFCSP_VQ] 7 x 7 mm Body, Very Thin Quad; RoHS: Y; Packing: Tray; Mounting Technology: Surface Mount; Code_JEDEC: MO-220-VKKD-2; ComponentLink1Description: Manufacturer URL; ComponentLink1URL: http://www.analog.com/en/index.html; ComponentLink2Description: Datasheet; ComponentLink2URL: http://www.analog.com/static/imported-files/data_sheets/AD9233.pdf; ComponentLink3Description: Package Specification; ComponentLink3URL: http://www.analog.com/static/imported-files/packages/32365178961902CP_48_3.pdf; ComponentLink4Description: Product URL; ComponentLink4URL: http://www.analog.com/en/analog-to-digital-converters/ad-converters/ad9233/products/product.html
footprint CP-48-3_N (QFN, 48-Leads, Body 7x7mm, Pitch 0.5mm, Thermal Pad 4.1x4.1mm, IPC Medium Density)
footprint CP-48-3_L (QFN, 48-Leads, Body 7x7mm, Pitch 0.5mm, Thermal Pad 4.1x4.1mm, IPC High Density)
footprint CP-48-3_M (QFN, 48-Leads, Body 7x7mm, Pitch 0.5mm, Thermal Pad 4.1x4.1mm, IPC Low Density)
part A pins: 1 D0 (LSB) (hiz) "Data Output Bit.", 2 D1 (hiz) "Data Output Bit.", 3 D2 (hiz) "Data Output Bit.", 4 D3 (hiz) "Data Output Bit.", 5 D4 (hiz) "Data Output Bit.", 6 D5 (hiz) "Data Output Bit.", 9 D6 (hiz) "Data Output Bit.", 10 D7 (hiz) "Data Output Bit.", 11 D8 (hiz) "Data Output Bit.", 12 D9 (hiz) "Data Output Bit.", 13 D10 (hiz) "Data Output Bit.", 14 D11 (MSB) (hiz) "Data Output Bit.", 15 OR (hiz) "Out-of-Range Indicator.", 18 SDIO/DCS (io) "Serial Port Interface (SPI)® Data Input/Output (Serial Port Mode); Duty Cycle Stabilizer Select (External Pin Mode). See Table 10.", 19 SCLK/DFS (in) "SPI Clock (Serial Port Mode); Data Format Select Pin (External Pin Mode). See Table 10.", 20 CSB (in) "SPI Chip Select (Active Low).", 25 SENSE (in) "Reference Mode Selection. See Table 9.", 26 VREF (io) "Voltage Reference Input/Output.", 27 REFB "Differential Reference (-).", 28 REFT "Differential Reference (+).", 30 VIN+ (in) "Analog Input Pin (+).", 31 VIN- (in) "Analog Input Pin (-).", 34 CML (out) "Common-Mode Level Bias Output.", 35 RBIAS (in) "External Bias Resister Connection. A 10 kO resister must be connected between this pin and analog ground (AGND).", 36 PDWN (in) "Power-Down Function Select.", 38 CLK+ (in) "Clock Input (+).", 39 CLK- (in) "Clock Input (-).", 43 OEB (in) "Output Enable (Active Low).", 44 DCO (hiz) "Data Clock Output.", 45 NC "No Connection.", 46 NC "No Connection."
part B pins: 7 DRGND (power) "Digital Output Ground.", 8 DRVDD (power) "Digital Output Driver Supply (1.8 V to 3.3 V).", 16 DRGND (power) "Digital Output Ground.", 17 DRVDD (power) "Digital Output Driver Supply (1.8 V to 3.3 V).", 21 AGND (power) "Analog Ground.", 22 AVDD (power) "Analog Power Supply.", 23 AGND (power) "Analog Ground.", 24 AVDD (power) "Analog Power Supply.", 29 AGND (power) "Analog Ground.", 32 AGND (power) "Analog Ground.", 33 AVDD (power) "Analog Power Supply.", 37 AGND (power) "Analog Ground.", 40 AVDD (power) "Analog Power Supply.", 41 AGND (power) "Analog Ground.", 42 AVDD (power) "Analog Power Supply.", 47 DRGND (power) "Digital Output Ground.", 48 DRVDD (power) "Digital Output Driver Supply (1.8 V to 3.3 V).", 49 EP (power) "Analog Ground. (Pin 49 is the exposed thermal pad on the bottom of the package.)"

## AD9233BCPZ-105
designator U?
Single 12-Bit Analog-to-Digital Converter with Parallel Interface, 1.8 V, 105MSPS, -40 to +85 degC, CP-48-3, Pb-Free, Tray; Part Number: AD9233-105; Manufacturer: Analog Devices; Resolution (Bits): 12; Channels: 1; Throughput Rate (SPS): 105M; Interface: Par; DatasheetVersion: Rev.A; PackageVersion: 2005; PackageReference: CP-48-3; PackageDescription: 48-Lead Lead Frame Chip Scale Package [LFCSP_VQ] 7 x 7 mm Body, Very Thin Quad; RoHS: Y; Packing: Tray; Mounting Technology: Surface Mount; Code_JEDEC: MO-220-VKKD-2; ComponentLink1Description: Manufacturer URL; ComponentLink1URL: http://www.analog.com/en/index.html; ComponentLink2Description: Datasheet; ComponentLink2URL: http://www.analog.com/static/imported-files/data_sheets/AD9233.pdf; ComponentLink3Description: Package Specification; ComponentLink3URL: http://www.analog.com/static/imported-files/packages/32365178961902CP_48_3.pdf; ComponentLink4Description: Product URL; ComponentLink4URL: http://www.analog.com/en/analog-to-digital-converters/ad-converters/ad9233/products/product.html
footprint CP-48-3_N (QFN, 48-Leads, Body 7x7mm, Pitch 0.5mm, Thermal Pad 4.1x4.1mm, IPC Medium Density)
footprint CP-48-3_L (QFN, 48-Leads, Body 7x7mm, Pitch 0.5mm, Thermal Pad 4.1x4.1mm, IPC High Density)
footprint CP-48-3_M (QFN, 48-Leads, Body 7x7mm, Pitch 0.5mm, Thermal Pad 4.1x4.1mm, IPC Low Density)
part A pins: 1 D0(LSB) (hiz) "Data Output Bits.", 2 D1 (hiz) "Data Output Bits.", 3 D2 (hiz) "Data Output Bits.", 4 D3 (hiz) "Data Output Bits.", 5 D4 (hiz) "Data Output Bits.", 6 D5 (hiz) "Data Output Bits.", 9 D6 (hiz) "Data Output Bits.", 10 D7 (hiz) "Data Output Bits.", 11 D8 (hiz) "Data Output Bits.", 12 D9 (hiz) "Data Output Bits.", 13 D10 (hiz) "Data Output Bits.", 14 D11(MSB) (hiz) "Data Output Bits.", 15 OR (hiz) "Out-of-Range Indicator.", 18 SDIO/DCS (io) "Serial Port Interface (SPI)?Data Input/Output (Serial Port Mode); Duty Cycle Stabilizer Select (External Pin Mode). See Table 10.", 19 SCLK/DFS (in) "SPI Clock (Serial Port Mode); Data Format Select Pin (External Pin Mode). See Table 10.", 20 CSB (in) "SPI Chip Select (Active Low).", 25 SENSE (in) "Reference Mode Selection. See Table 9.", 26 VREF (io) "Voltage Reference Input/Output.", 27 REFB "Differential Reference (-).", 28 REFT "Differential Reference (+).", 30 VIN+ (in) "Analog Input Pin (+).", 31 VIN- (in) "Analog Input Pin (-).", 34 CML (out) "Common-Mode Level Bias Output.", 35 RBIAS (in) "External Bias Resister Connection. A 10 kO resister must be connected between this pin and analog ground (AGND).", 36 PDWN (in) "Power-Down Function Select.", 38 CLK+ (in) "Clock Input (+).", 39 CLK- (in) "Clock Input (-).", 43 OEB (in) "Output Enable (Active Low).", 44 DCO (hiz) "Data Clock Output.", 45 NC "No Connection.", 46 NC "No Connection."
part B pins: 7 DRGND (power) "Digital Output Ground.", 8 DRVDD (power) "Digital Output Driver Supply (1.8 V to 3.3 V).", 16 DRGND (power) "Digital Output Ground.", 17 DRVDD (power) "Digital Output Driver Supply (1.8 V to 3.3 V).", 21 AGND (power) "Analog Ground.", 22 AVDD (power) "Analog Power Supply.", 23 AGND (power) "Analog Ground.", 24 AVDD (power) "Analog Power Supply.", 29 AGND (power) "Analog Ground.", 32 AGND (power) "Analog Ground", 33 AVDD (power) "Analog Power Supply.", 37 AGND (power) "Analog Ground.", 40 AVDD (power) "Analog Power Supply.", 41 AGND (power) "Analog Ground", 42 AVDD (power) "Analog Power Supply.", 47 DRGND (power) "Digital Output Ground.", 48 DRVDD (power) "Digital Output Driver Supply (1.8 V to 3.3 V).", 49 EP (power) "Analog Ground."

## AD9233BCPZ-125
designator U?
Single 12-Bit Analog-to-Digital Converter with Parallel Interface, 1.8 V 125MSPS, -40 to +85 degC, CP-48-3, Pb-Free, Tray; Part Number: AD9233-125; Manufacturer: Analog Devices; Resolution (Bits): 12; Channels: 1; Throughput Rate (SPS): 125M; Interface: Par; DatasheetVersion: Rev.A; PackageVersion: 2005; PackageReference: CP-48-3; PackageDescription: 48-Lead Lead Frame Chip Scale Package [LFCSP_VQ] 7 x 7 mm Body, Very Thin Quad; RoHS: Y; Packing: Tray; Mounting Technology: Surface Mount; Code_JEDEC: MO-220-VKKD-2; ComponentLink1Description: Manufacturer URL; ComponentLink1URL: http://www.analog.com/en/index.html; ComponentLink2Description: Datasheet; ComponentLink2URL: http://www.analog.com/static/imported-files/data_sheets/AD9233.pdf; ComponentLink3Description: Package Specification; ComponentLink3URL: http://www.analog.com/static/imported-files/packages/32365178961902CP_48_3.pdf; ComponentLink4Description: Product URL; ComponentLink4URL: http://www.analog.com/en/analog-to-digital-converters/ad-converters/ad9233/products/product.html
footprint CP-48-3_N (QFN, 48-Leads, Body 7x7mm, Pitch 0.5mm, Thermal Pad 4.1x4.1mm, IPC Medium Density)
footprint CP-48-3_L (QFN, 48-Leads, Body 7x7mm, Pitch 0.5mm, Thermal Pad 4.1x4.1mm, IPC High Density)
footprint CP-48-3_M (QFN, 48-Leads, Body 7x7mm, Pitch 0.5mm, Thermal Pad 4.1x4.1mm, IPC Low Density)
part A pins: 1 D0 (LSB) (hiz) "Data Output Bits", 2 D1 (hiz) "Data Output Bits", 3 D2 (hiz) "Data Output Bits", 4 D3 (hiz) "Data Output Bits", 5 D4 (hiz) "Data Output Bits", 6 D5 (hiz) "Data Output Bits", 9 D6 (hiz) "Data Output Bits", 10 D7 (hiz) "Data Output Bits", 11 D8 (hiz) "Data Output Bits", 12 D9 (hiz) "Data Output Bits", 13 D10 (hiz) "Data Output Bits", 14 D11 (MSB) (hiz) "Data Output Bits", 15 OR (out) "Out-of-Range Indicator.", 18 SDIO/DCS (io) "Serial Port Interface (SPI) Data Input/Output (Serial Port Mode); Duty Cycle Stabilizer Select (External Pin Mode). See Table 10.", 19 SCLK/DFS (in) "SPI Clock (Serial Port Mode); Data Format Select Pin (External Pin Mode). See Table 10.", 20 CSB (in) "SPI Chip Select (Active Low)", 25 SENSE (in) "Reference Mode Selection. See Table 9", 26 VREF (io) "Voltage Reference Input/Output.", 27 REFB "Differential Reference (-).", 28 REFT "Differential Reference (+).", 30 VIN+ (in) "Analog Input Pin (+).", 31 VIN- (in) "Analog Input Pin (-).", 34 CML (out) "Common-Mode Level Bias Output.", 35 RBIAS (in) "External Bias Resister Connection. A 10 kO resister must be connected between this pin and analog ground (AGND).", 36 PDWN (in) "Power-Down Function Select.", 38 CLK+ (in) "Clock Input (+).", 39 CLK- (in) "Clock Input (-).", 43 OEB (in) "Output Enable (Active Low).", 44 DCO (out) "Analog Ground. (Pin 0 is the exposed thermal pad on the bottom of the package.)", 45 NC "No Connection.", 46 NC "No Connection."
part B pins: 7 DRGND (power) "Digital Output Ground.", 8 DRVDD (power) "Digital Output Driver Supply (1.8 V to 3.3 V).", 16 DRGND (power) "Digital Output Ground.", 17 DRVDD (power) "Digital Output Driver Supply (1.8 V to 3.3 V).", 21 AGND (power) "Analog Ground. (Pin 0 is the exposed thermal pad on the bottom of the package.)", 22 AVDD (power) "Analog Power Supply", 23 AGND (power) "Analog Ground. (Pin 0 is the exposed thermal pad on the bottom of the package.)", 24 AVDD (power) "Analog Power Supply", 29 AGND (power) "Analog Ground. (Pin 0 is the exposed thermal pad on the bottom of the package.)", 32 AGND (power) "Analog Ground. (Pin 0 is the exposed thermal pad on the bottom of the package.)", 33 AVDD (power) "Analog Power Supply", 37 AGND (power) "Analog Ground. (Pin 0 is the exposed thermal pad on the bottom of the package.)", 40 AVDD (power) "Analog Power Supply", 41 AGND (power) "Analog Ground. (Pin 0 is the exposed thermal pad on the bottom of the package.)", 42 AVDD (power) "Analog Power Supply", 47 DRGND (power) "Digital Output Ground.", 48 DRVDD (power) "Digital Output Driver Supply (1.8 V to 3.3 V).", 49 AGND (power) "Analog Ground. (Pin 0 is the exposed thermal pad on the bottom of the package.)"